# EAGLE library part ADXL330 (library basestation)
ADXL330 3-Axis +/- 3g accelerometer centre pad for mechanical stability only; no electrical connection
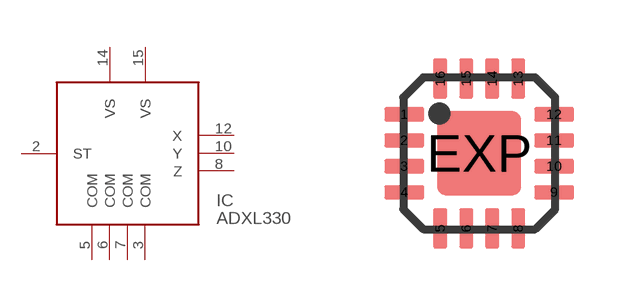
[diagram p1: symbol with the pads of LFCSP16; footprint LFCSP16]

Designator prefix IC

## ADXL330  [LFCSP16]
2  ST  in
3  COM  pwr
5  COM  pwr
6  COM  pwr
7  COM  pwr
8  Z  out
10  Y  out
12  X  out
14  VS  pwr
15  VS  pwr

## Footprint LFCSP16 (pad centres in mm)
16-Terminal Leadless Frame Chip Scale Package [LFCSP] (CP) Taken from analog-devices library, and modified for easy hand-soldering Source: Analog Devices .. 780914713ADD8704_0.pdf
smd 1 x 0.35: 1 -1.875,0.975; 2 -1.875,0.325; 3 -1.875,-0.325; 4 -1.875,-0.975; 9 1.875,-0.975; 10 1.875,-0.325; 11 1.875,0.325; 12 1.875,0.975
smd 0.35 x 1: 5 -0.975,-1.875; 6 -0.325,-1.875; 7 0.325,-1.875; 8 0.975,-1.875; 13 0.975,1.875; 14 0.325,1.875; 15 -0.325,1.875; 16 -0.975,1.875
smd 2.1 x 2.1: EXP 0,0